# Altium schematic symbol library Schlib1.SchLib: 44 symbols (part 4 of 4)
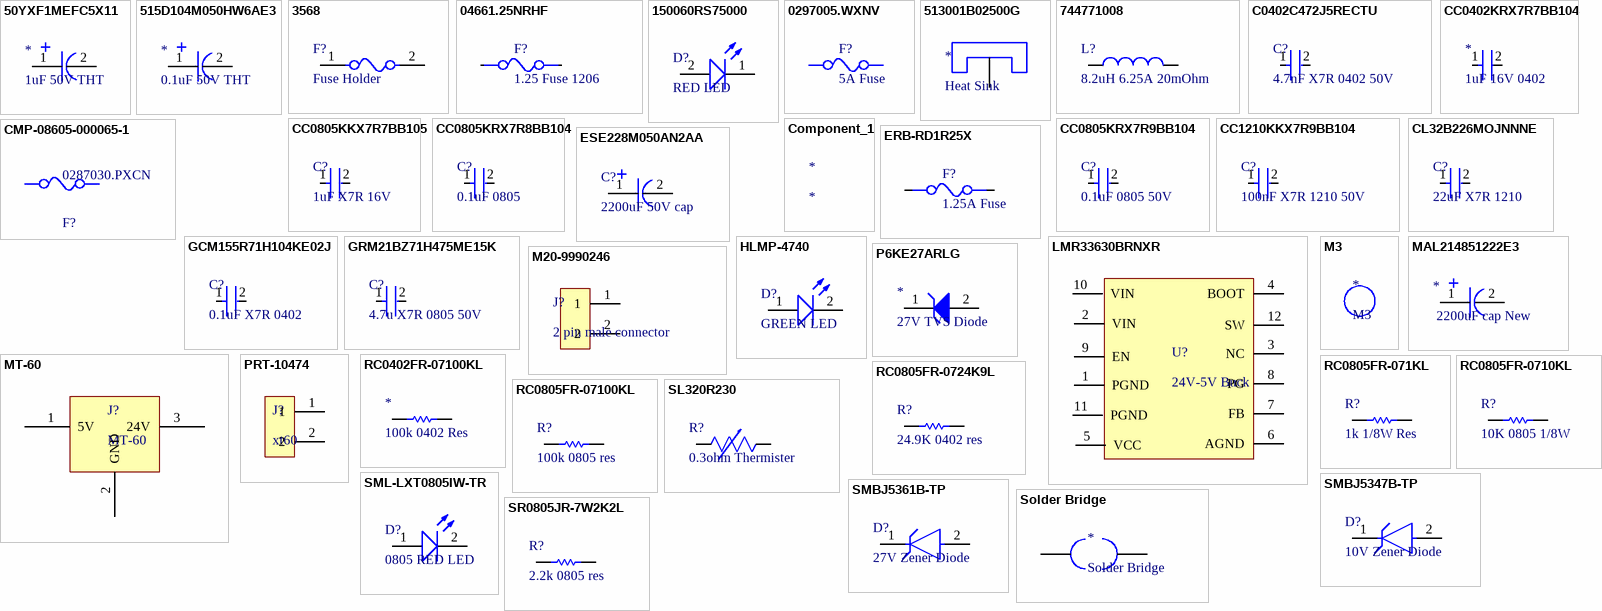
[diagram p4: symbols 50YXF1MEFC5X11 to SR0805JR-7W2K2L]

## SML-LXT0805IW-TR
designator D?, comment 0805 RED LED
Led; Red; 11MCD; 0.061IN.DIA.; SMD; 100MA; 2V Vf; 635NM; 140DEG; SMD; White Diffused; 5V Vr; Manufacturer: Lumex; Manufacturer Part Number: SML-LXT0805IW-TR; Approvals: CSA, UL; Forward Current: 30mA; Forward Voltage: 2.5V; Number of Circuits: 1; Power Dissipation: 48mW; Shape: Rectangular; Test Current: 20mA; Viewing Angle: 140°; Wavelength: 628nm; Supplier: DigiKey; Supplier Part Number: 67-1552-1-ND; RoHS: Compliant; Category: LEDs; Stock: 136451; Pricing: 1=0.2, 10=0.138, 100=0.0958, 500=0.07648, 1000=0.07007, 2000=0.06459 (USD); Case/Package: 0805; Case Code (Imperial): 0805; Case Code (Metric): 2012; China RoHS: Compliant; Color: Red; Country of Origin: Taiwan; Dominant Wavelength: 635nm; Export Control Classification Number (ECCN) Code: EAR99; Height: 800µm; Harmonized Tariff Schedule (HTS) Code: 8541.40.20.00; Illumination Color: Red; Introduction Date: 2001-01-08; Length: 2mm; Lens Color: White; Lens Style: Diffused; Lens Transparency: Diffused; Lifecycle Status: Production; Luminous Intensity: 11mcd; Max Operating Temperature: 80°C; Min Operating Temperature: -25°C; Mounting Technology: Surface Mount; Number of LEDs: 1; Pins: 2; Number of Terminals: 2; Packaging: Cut Tape; Peak Wavelength: 635nm; REACH SVHC: Yes; Reverse Voltage: 5V; Schedule B: 8541402000, 8541402000|8541402000|8541402000|8541402000|8541402000|8541402000|8541402000|8541402000|8541402000|8541402000|8541402000|8541402000|8541402000|8541402000|8541402000|8541402000|8541402000|8541402000|8541402000|8541402000|8541402000|8541402000|8541402000|85, 8541410000; Terminal Pitch: 2.1mm; Width: 1.25mm; ComponentLink1URL: https://datasheet.octopart.com:443/SML-LXT0805IW-TR-Lumex-datasheet-96443416.pdf?src-supplier=JRH+Electronics; ComponentLink1Description: https://datasheet.octopart.com:443/SML-LXT0805IW-TR-Lumex-datasheet-96443416.pdf?src-supplier=JRH+Electronics; ComponentLink2URL: https://datasheet.octopart.com:443/SML-LXT0805IW-TR-Lumex-datasheet-158251.pdf?src-supplier=Newark; ComponentLink2Description: https://datasheet.octopart.com:443/SML-LXT0805IW-TR-Lumex-datasheet-158251.pdf?src-supplier=Newark; ComponentLink3URL: https://datasheet.octopart.com:443/SML-LXT0805IW-TR-Lumex-datasheet-43153349.pdf?src-supplier=Electro+Sonic; ComponentLink3Description: https://datasheet.octopart.com:443/SML-LXT0805IW-TR-Lumex-datasheet-43153349.pdf?src-supplier=Electro+Sonic; ComponentLink4URL: https://datasheet.octopart.com:443/SML-LXT0805IW-TR.-Lumex-datasheet-17067.pdf?src-supplier=DigiKey; ComponentLink4Description: https://datasheet.octopart.com:443/SML-LXT0805IW-TR.-Lumex-datasheet-17067.pdf?src-supplier=DigiKey; ComponentLink5URL: https://datasheet.octopart.com:443/SML-LXT0805IW-TR-Lumex-datasheet-9793472.pdf?src-supplier=RS+(Formerly+Allied+Electronics); ComponentLink5Description: https://datasheet.octopart.com:443/SML-LXT0805IW-TR-Lumex-datasheet-9793472.pdf?src-supplier=RS+(Formerly+Allied+Electronics); ComponentLink6URL: https://datasheet.octopart.com:443/SML-LXT0805IW-TR-Lumex-datasheet-86237.pdf?src-supplier=RS+(Formerly+Allied+Electronics); ComponentLink6Description: https://datasheet.octopart.com:443/SML-LXT0805IW-TR-Lumex-datasheet-86237.pdf?src-supplier=RS+(Formerly+Allied+Electronics); LCSC Part No: C19171391
footprint 0805 LED
pins: 1 A, 2 K

## Solder Bridge
designator *
footprint 1206
pins: 1 2, 2

## SR0805JR-7W2K2L
designator R?, comment 2.2k 0805 res
Res Thick Film 0805 2.2K Ohm 5% 0.25W(1/4W) 100ppm/C Pad SMD T/R Automotive; Manufacturer: Yageo Group; Manufacturer Part Number: SR0805JR-7W2K2L; Max Power Dissipation: 250mW; Value: 2.2kΩ; Temperature Coefficient: 100ppm/°C; Working Voltage: 500V; Supplier: DigiKey; Supplier Part Number: YAG6054CT-ND; RoHS: Compliant; Category: Chip SMD Resistors; Stock: 12893; Pricing: 1=0.21, 10=0.108, 25=0.0856, 50=0.073, 100=0.063, 250=0.05284, 500=0.04704, 1000=0.04244 (USD); Case/Package: 0805; China RoHS: Non-Compliant; Composition: Thick Film; Country of Origin: Mainland China, Taiwan; Export Control Classification Number (ECCN) Code: EAR99; Features: Automotive AEC-Q200; Height: 500µm; Harmonized Tariff Schedule (HTS) Code: 8533.21.00.30; Introduction Date: 2015-07-31; Length: 2mm; Lifecycle Status: Production; Max Operating Temperature: 155°C; Min Operating Temperature: -55°C; Mounting Technology: Surface Mount; Number of Terminals: 2; Number of Terminations: 2; Packaging: Tape & Reel; Power Rating: 250mW; Ratings: AEC-Q200; REACH SVHC: Yes; Tolerance: 5%; Width: 1.25mm; ComponentLink1URL: https://datasheet.octopart.com:443/SR0805JR-7W2K2L-Yageo-datasheet-176402240.pdf?src-supplier=Farnell; ComponentLink1Description: https://datasheet.octopart.com:443/SR0805JR-7W2K2L-Yageo-datasheet-176402240.pdf?src-supplier=Farnell; ComponentLink2URL: https://datasheet.octopart.com/SR0805JR-7W2K2L-Yageo-datasheet-11047080.pdf; ComponentLink2Description: https://datasheet.octopart.com/SR0805JR-7W2K2L-Yageo-datasheet-11047080.pdf; ComponentLink3URL: http://sigma.octopart.com:80/conflict_mineral_statement/Yageo-company-3.pdf?src-supplier=Compliance+Statements; ComponentLink3Description: http://sigma.octopart.com:80/conflict_mineral_statement/Yageo-company-3.pdf?src-supplier=Compliance+Statements; ComponentLink4URL: http://sigma.octopart.com:80/rohs_statement/Yageo-company-2.pdf?src-supplier=Compliance+Statements; ComponentLink4Description: http://sigma.octopart.com:80/rohs_statement/Yageo-company-2.pdf?src-supplier=Compliance+Statements; LCSC Part No: C873872
footprint 0805 1K Resistor (Chip Resistor, 2-Leads, Body 2.1x1.35mm, IPC Medium Density)
pins: 1, 2

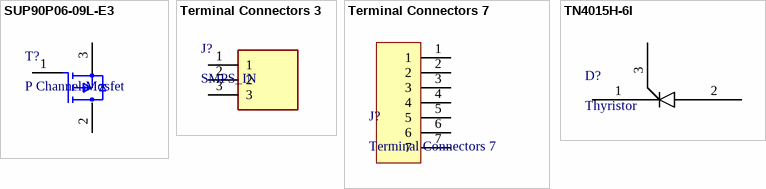
[diagram p1: symbols SUP90P06-09L-E3 to TN4015H-6I]

## SUP90P06-09L-E3
designator T?, comment P Channel Mosfet
Transistor MOSFET P-CH 60V 90A 3-Pin (3+Tab) TO-220AB; Manufacturer: Vishay; Manufacturer Part Number: SUP90P06-09L-E3; Drain to Source Breakdown Voltage: -60V; Drain to Source Resistance: 9.3mΩ; Element Configuration: Single; Fall Time: 300ns; Gate to Source Voltage (Vgs): 20V; Input Capacitance: 9.2nF; Max Junction Temperature (Tj): 175°C; Max Power Dissipation: 250W; Number of Channels: 1; Power Dissipation: 2.4W; Value: 9.3mΩ; Rise Time: 190ns; Threshold Voltage: -1V; Turn-Off Delay Time: 140ns; Turn-On Delay Time: 20ns; Supplier: Future Electronics; Supplier Part Number: SUP90P06-09L-E3; RoHS: Compliant; Category: MOSFETs; Stock: 50; Pricing: 50=5.68, 100=5.65, 200=5.62, 750=5.56 (USD); Case/Package: TO-220AB; China RoHS: Non-Compliant; Contact Plating: Tin; Continuous Drain Current (ID): 90A; Country of Origin: Israel; Drain to Source Voltage (Vdss): -60V; Export Control Classification Number (ECCN) Code: EAR99; Height: 19.31mm; Harmonized Tariff Schedule (HTS) Code: 8541.29.00.95; Introduction Date: 2004-06-15; Lead Free: Lead Free; Length: 10.41mm; Lifecycle Status: Production; Max Operating Temperature: 175°C; Min Breakdown Voltage: 60V; Min Operating Temperature: -55°C; Mounting Technology: Through Hole; Number of Elements: 1; Pins: 3; Number of Terminals: 3; Radiation Hardening: No; Rds On Max: 9.3mΩ; REACH SVHC: No; Schedule B: 8541290080, 8541290080|8541290080|8541290080|8541290080|8541290080; Weight: 6.000006g; Width: 4.7mm; ComponentLink1URL: https://datasheet.octopart.com:443/SUP90P06-09L-E3-Vishay-datasheet-136806930.pdf?src-supplier=Upverter; ComponentLink1Description: https://datasheet.octopart.com:443/SUP90P06-09L-E3-Vishay-datasheet-136806930.pdf?src-supplier=Upverter; ComponentLink2URL: https://datasheet.octopart.com:443/SUP90P06-09L-E3-Vishay-datasheet-181475598.pdf?src-supplier=Farnell; ComponentLink2Description: https://datasheet.octopart.com:443/SUP90P06-09L-E3-Vishay-datasheet-181475598.pdf?src-supplier=Farnell; ComponentLink3URL: https://datasheet.octopart.com:443/SUP90P06-09L-E3-Vishay-datasheet-5331994.pdf?src-supplier=Farnell; ComponentLink3Description: https://datasheet.octopart.com:443/SUP90P06-09L-E3-Vishay-datasheet-5331994.pdf?src-supplier=Farnell; ComponentLink4URL: https://datasheet.octopart.com:443/SUP90P06-09L-E3-Vishay-datasheet-12554124.pdf?src-supplier=Farnell; ComponentLink4Description: https://datasheet.octopart.com:443/SUP90P06-09L-E3-Vishay-datasheet-12554124.pdf?src-supplier=Farnell; ComponentLink5URL: https://datasheet.octopart.com:443/SUP90P06-09L-E3-Vishay-datasheet-62319295.pdf?src-supplier=element14+APAC; ComponentLink5Description: https://datasheet.octopart.com:443/SUP90P06-09L-E3-Vishay-datasheet-62319295.pdf?src-supplier=element14+APAC; ComponentLink6URL: https://datasheet.octopart.com:443/SUP90P06-09L-E3-Vishay-datasheet-34182708.pdf?src-supplier=Newark; ComponentLink6Description: https://datasheet.octopart.com:443/SUP90P06-09L-E3-Vishay-datasheet-34182708.pdf?src-supplier=Newark; ComponentLink7URL: https://datasheet.octopart.com:443/SUP90P06-09L-E3-Vishay-datasheet-182948809.pdf?src-supplier=Future+Electronics; ComponentLink7Description: https://datasheet.octopart.com:443/SUP90P06-09L-E3-Vishay-datasheet-182948809.pdf?src-supplier=Future+Electronics; ComponentLink8URL: https://datasheet.octopart.com:443/SUP90P06-09L-E3-Vishay-datasheet-44060369.pdf?src-supplier=TME; ComponentLink8Description: https://datasheet.octopart.com:443/SUP90P06-09L-E3-Vishay-datasheet-44060369.pdf?src-supplier=TME; ComponentLink9URL: https://datasheet.octopart.com:443/SUP90P06-09L-E3-Vishay-datasheet-7828879.pdf?src-supplier=Jameco; ComponentLink9Description: https://datasheet.octopart.com:443/SUP90P06-09L-E3-Vishay-datasheet-7828879.pdf?src-supplier=Jameco; ComponentLink10URL: http://sigma.octopart.com:80/rohs_statement/Vishay-company-15.pdf?src-supplier=Compliance+Statements; ComponentLink10Description: http://sigma.octopart.com:80/rohs_statement/Vishay-company-15.pdf?src-supplier=Compliance+Statements; LCSC Part No: C913431
footprint P-Ch Mosfet
pins: 1 G, 2 D, 3 S

## Terminal Connectors 3
designator J?, comment SMPS_IN
Terminal Connector 3pin SMPS in; Manufacturer_Name: Molex; Manufacturer_Part_Number: 0395430603; Datasheet Link: https://www.molex.com/en-us/products/part-detail-pdf/395430603?display=pdf; Height: 10mm; Mouser Part Number: N/A; Mouser Price/Stock: https://www.mouser.co.uk/ProductDetail/Molex/0395430603?qs=%252BdQmOuGyFcHNO385d8O8Xg%3D%3D; Arrow Part Number: 0395430603; Arrow Price/Stock: https://www.arrow.com/en/products/0395430603/molex?region=nac
footprint SHDR3W100P0X500_1X3_1500X760X1000P
pins: 1, 2, 3

## Terminal Connectors 7
designator J?
7 Position Barrier Block Connector 12~22 AWG 750V 32A Through Hole; Manufacturer Part Number: HB9500M-9.5-07P-13-00A; Manufacturer Lifecycle Status: ACTIVE; Category Connectors, Interconnects/Terminal Blocks/Barrier Blocks: KANGNEX; Approvals: UL, cUL; Current Rating: 15A; Number of Circuits: 5; Number of Contacts: 6; Number of Levels: 1; Pitch: 5.08mm; Voltage Rating: 300V; Wire/Cable Gauge: 12AWG; Supplier Part Number: HB9500M-9.5-07P-13-00A; Manufacturer: KANGNEX; RoHS: Compliant; Category: Connectors, Interconnects/Terminal Blocks/Barrier Blocks; Stock: 960; Pricing: 1=2.8662, 10=2.1815, 25=1.9364, 50=1.7714, 100=1.6311, 480=1.4072, 960=1.353 (USD); China RoHS: Compliant; Color: Black; Contact Material: Brass; Contact Plating: Tin; Country of Origin: US; Export Control Classification Number (ECCN) Code: EAR99; ELV: Compliant; Flammability Rating: UL94 V-0; Halogen Free: Low Halogen; Height: 14.4mm; Housing Color: Black; Housing Material: Nylon; Harmonized Tariff Schedule (HTS) Code: 8536.90.40.00; Introduction Date: 2007-04-03; Lead Free: Lead Free; Length: 30.48mm; Lifecycle Status: Production; Max Operating Temperature: 105°C; Min Operating Temperature: -40°C; Mounting Technology: Screw; Pins: 6; Number of Positions: 6; Number of Rows: 1; Orientation: Vertical; Packaging: Bulk; REACH SVHC: No; Schedule B: 8536695050, 8536695050|8536695050|8536695050|8536695050|8536695050; Termination: Solder; ComponentLink1URL: https://datasheet.octopart.com:443/395443006-Molex-datasheet-138897636.pdf?src-supplier=IHS; ComponentLink1Description: https://datasheet.octopart.com:443/395443006-Molex-datasheet-138897636.pdf?src-supplier=IHS; ComponentLink2URL: https://datasheet.octopart.com:443/39544-3006-Molex-datasheet-15647497.pdf?src-supplier=Molex; ComponentLink2Description: https://datasheet.octopart.com:443/39544-3006-Molex-datasheet-15647497.pdf?src-supplier=Molex; ComponentLink3URL: https://datasheet.octopart.com:443/395443006-Molex-datasheet-8340186.pdf?src-supplier=Molex; ComponentLink3Description: https://datasheet.octopart.com:443/395443006-Molex-datasheet-8340186.pdf?src-supplier=Molex; ComponentLink4URL: https://datasheet.octopart.com:443/39544-3006-Molex-datasheet-193100652.pdf?src-supplier=JRH+Electronics; ComponentLink4Description: https://datasheet.octopart.com:443/39544-3006-Molex-datasheet-193100652.pdf?src-supplier=JRH+Electronics; ComponentLink5URL: https://datasheet.octopart.com:443/39544-3006-Molex-datasheet-101582495.pdf?src-supplier=Farnell; ComponentLink5Description: https://datasheet.octopart.com:443/39544-3006-Molex-datasheet-101582495.pdf?src-supplier=Farnell; ComponentLink6URL: https://datasheet.octopart.com:443/39544-3006-Molex-datasheet-154750061.pdf?src-supplier=Master+Electronics; ComponentLink6Description: https://datasheet.octopart.com:443/39544-3006-Molex-datasheet-154750061.pdf?src-supplier=Master+Electronics; ComponentLink7URL: https://datasheet.octopart.com:443/39544-3006-Molex-datasheet-62280869.pdf?src-supplier=Electro+Sonic; ComponentLink7Description: https://datasheet.octopart.com:443/39544-3006-Molex-datasheet-62280869.pdf?src-supplier=Electro+Sonic; ComponentLink8URL: https://datasheet.octopart.com:443/39544-3006-Molex-datasheet-44402560.pdf?src-supplier=Electro+Sonic; ComponentLink8Description: https://datasheet.octopart.com:443/39544-3006-Molex-datasheet-44402560.pdf?src-supplier=Electro+Sonic; ComponentLink9URL: https://datasheet.octopart.com:443/39544-3006-Molex-datasheet-34199391.pdf?src-supplier=Newark; ComponentLink9Description: https://datasheet.octopart.com:443/39544-3006-Molex-datasheet-34199391.pdf?src-supplier=Newark; ComponentLink10URL: https://datasheet.octopart.com:443/39544-3006-Molex-datasheet-33003022.pdf?src-supplier=Newark; ComponentLink10Description: https://datasheet.octopart.com:443/39544-3006-Molex-datasheet-33003022.pdf?src-supplier=Newark; ComponentLink11URL: https://datasheet.octopart.com:443/39544-3006-Molex-datasheet-21207647.pdf?src-supplier=Newark; ComponentLink11Description: https://datasheet.octopart.com:443/39544-3006-Molex-datasheet-21207647.pdf?src-supplier=Newark; ComponentLink12URL: https://datasheet.octopart.com:443/39544-3006-Molex-datasheet-5315843.pdf?src-supplier=Verical; ComponentLink12Description: https://datasheet.octopart.com:443/39544-3006-Molex-datasheet-5315843.pdf?src-supplier=Verical; ComponentLink13URL: https://datasheet.octopart.com:443/39544-3006-Molex-datasheet-118853.pdf?src-supplier=DigiKey; ComponentLink13Description: https://datasheet.octopart.com:443/39544-3006-Molex-datasheet-118853.pdf?src-supplier=DigiKey; ComponentLink14URL: https://datasheet.octopart.com:443/39544-3006-Molex-datasheet-20203.pdf?src-supplier=element14; ComponentLink14Description: https://datasheet.octopart.com:443/39544-3006-Molex-datasheet-20203.pdf?src-supplier=element14; ComponentLink15URL: http://sigma.octopart.com:80/15647498/rohs_certificate/Molex-39544-3006.pdf?src-supplier=Compliance+Statements; ComponentLink15Description: http://sigma.octopart.com:80/15647498/rohs_certificate/Molex-39544-3006.pdf?src-supplier=Compliance+Statements; ComponentLink16URL: http://sigma.octopart.com:80/reach_statement/Molex-company-74.pdf?src-supplier=Compliance+Statements; ComponentLink16Description: http://sigma.octopart.com:80/reach_statement/Molex-company-74.pdf?src-supplier=Compliance+Statements; ComponentLink17URL: http://sigma.octopart.com:80/rohs_statement/Molex-company-73.pdf?src-supplier=Compliance+Statements; ComponentLink17Description: http://sigma.octopart.com:80/rohs_statement/Molex-company-73.pdf?src-supplier=Compliance+Statements; ComponentLink18URL: http://sigma.octopart.com:80/conflict_mineral_statement/Molex-company-72.pdf?src-supplier=Compliance+Statements; ComponentLink18Description: http://sigma.octopart.com:80/conflict_mineral_statement/Molex-company-72.pdf?src-supplier=Compliance+Statements; LCSC Part No: C601241
footprint 7 LUG PIN HEADER
pins: 1, 2, 3, 4, 5, 6, 7

## TN4015H-6I
designator D?, comment Thyristor
SCR 600 V 40 A Standard Recovery Through Hole TO-220; Manufacturer: STMicroelectronics; Manufacturer Part Number: TN4015H-6I; Hold Current: 60mA; Leakage Current: 10µA; Max Junction Temperature (Tj): 150°C; Max Repetitive Reverse Voltage (Vrrm): 600V; Max RMS Current: 40A; Number of Elements: 1; Peak Non-Repetitive Surge Current: 360A; Supplier: Arrow Electronics; Supplier Part Number: TN4015H-6I; RoHS: Compliant; Category: Thyristors; Stock: 1000; Pricing: 1000=0.6362 (USD); China RoHS: Non-Compliant; Country of Origin: Mainland China; Export Control Classification Number (ECCN) Code: EAR99; Harmonized Tariff Schedule (HTS) Code: 8541.30.00.80; Introduction Date: 2016-11-28; Lifecycle Status: Production; Max Operating Temperature: 150°C; Min Operating Temperature: -40°C; Number of Terminals: 3; REACH SVHC: No; Schedule B: 8541300080; ComponentLink1URL: https://datasheet.octopart.com:443/TN4015H-6I-STMicroelectronics-datasheet-67304264.pdf?src-supplier=STMicroelectronics; ComponentLink1Description: https://datasheet.octopart.com:443/TN4015H-6I-STMicroelectronics-datasheet-67304264.pdf?src-supplier=STMicroelectronics; ComponentLink2URL: https://datasheet.octopart.com:443/TN4015H-6I-STMicroelectronics-datasheet-78772670.pdf?src-supplier=TME; ComponentLink2Description: https://datasheet.octopart.com:443/TN4015H-6I-STMicroelectronics-datasheet-78772670.pdf?src-supplier=TME; LCSC Part No: C5269098
footprint Thyristor
pins: 1, 2, 3